# Altium footprint library 2007178-1.PcbLib: 1 footprints
Each footprint in its own frame and in the unit in brackets; x right, y up, seen from the top. Pads: shape width x height; smd on the part's side, far side on the other; paste and mask are expansions set on the pad; w line width, h text height; cw(c..) or ccw(c..) is an arc to the next point about the centre after c.
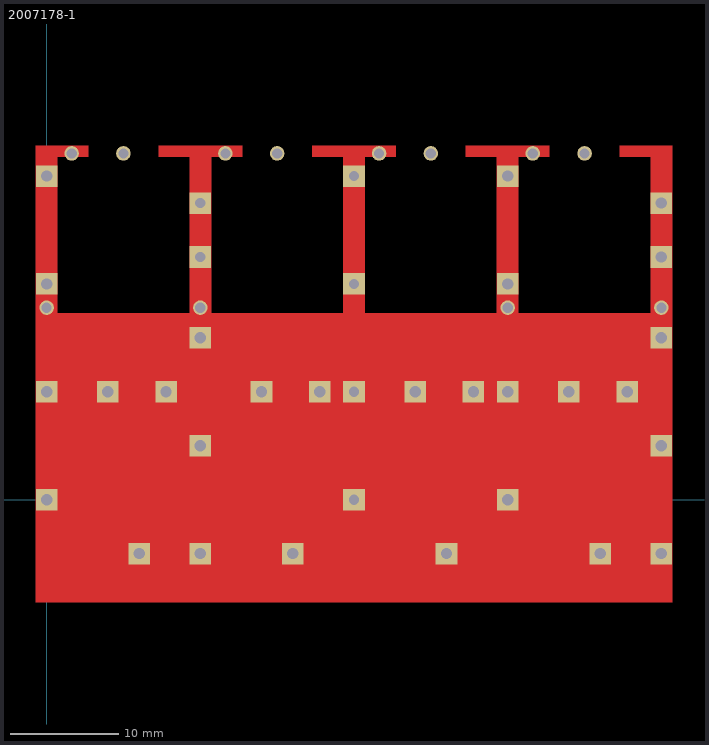
[diagram p0: the footprint, top view; thin cyan lines are the x and y axes]

## 2007178-1 [mm] "4 Port SFP+ Cage Assembly with Light Pipes"
pads (46):
  rect 2x2 hole 1.05: SHIELD(0,0) SHIELD(0,10) SHIELD(0,20) SHIELD(0,30) SHIELD(5.675,10) SHIELD(8.575,-5) SHIELD(11.075,10) SHIELD(14.25,-5) SHIELD(14.25,5) SHIELD(14.25,15) SHIELD(19.925,10) SHIELD(22.825,-5) SHIELD(25.325,10) SHIELD(34.175,10) SHIELD(37.075,-5) SHIELD(39.575,10) SHIELD(42.75,0) SHIELD(42.75,10) SHIELD(42.75,20) SHIELD(42.75,30) SHIELD(48.425,10) SHIELD(51.325,-5) SHIELD(53.825,10) SHIELD(57,-5) SHIELD(57,5) SHIELD(57,15) SHIELD(57,22.5) SHIELD(57,27.5)
  round 1.35 hole 0.95: SHIELD(0,17.8) SHIELD(2.325,32.1) SHIELD(7.125,32.1) SHIELD(14.25,17.8) SHIELD(16.575,32.1) SHIELD(21.375,32.1) SHIELD(30.825,32.1) SHIELD(35.625,32.1) SHIELD(42.75,17.8) SHIELD(45.075,32.1) SHIELD(49.875,32.1) SHIELD(57,17.8)
  rect 2x2 hole 0.95: SHIELD(14.25,22.5) SHIELD(14.25,27.5) SHIELD(28.5,0) SHIELD(28.5,10) SHIELD(28.5,20) SHIELD(28.5,30)
Top Layer:
  region: -1,32.8 -1,-9.5 58,-9.5 58,32.8 53.125,32.8 53.125,31.8 56,31.8 56,17.3 43.755,17.3 43.75,17.295 43.75,31.8 46.625,31.8 46.625,32.8 38.875,32.8 38.875,31.8 41.75,31.8 41.75,17.3 29.5,17.3 29.5,31.8 32.375,31.8 32.375,32.8 24.625,32.8 24.625,31.8 27.5,31.8 27.5,17.3 15.25,17.3 15.25,31.8 18.125,31.8 18.125,32.8 10.375,32.8 10.375,31.8 13.25,31.8 13.25,17.3 1,17.3 1,31.8 3.875,31.8 3.875,32.8
3D body "2007178-1.step": height 15.03, standoff -2.02, extent -1.024,-16.5 58.024,38.3